# EAGLE library part AD8271 (library Arduino Dev Parts)
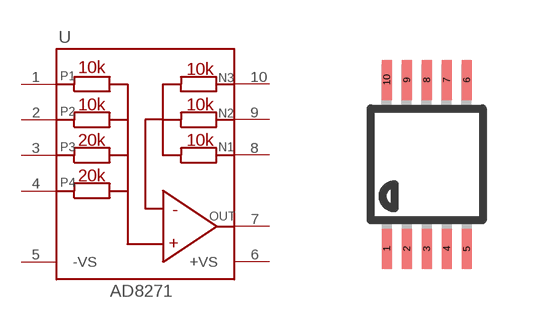
[diagram p1: symbol with the pads of MSOP10; footprint MSOP10]

Designator prefix U

## AD8271 (MF: ANALOG DEVICES; MPN: AD8271ARMZ; OC_FARNELL: 1827363)  [MSOP10]
1  P1  in
2  P2  in
3  P3  in
4  P4  in
5  -VS  pwr
6  +VS  pwr
7  OUT  out
8  N1  in
9  N2  in
10  N3  in

## Footprint MSOP10 (pad centres in mm)
10-Lead Mini Small Outline Package [MSOP] (RM-10) Source: http://www.analog.com/UploadedFiles/Data_Sheets/35641221898805SSM2167_b.pdf COMPLIANT TO JEDEC STANDARDS MO-187BA
smd 0.25 x 1: 1 -1,-2.113; 2 -0.5,-2.113; 3 0,-2.113; 4 0.5,-2.113; 5 1,-2.113; 6 1,2.113; 7 0.5,2.113; 8 0,2.113; 9 -0.5,2.113; 10 -1,2.113